# Altium integrated library Analog Devices Data Converters Analog-to-Digital Converters.IntLib: 2404 symbols (part 323 of 346)
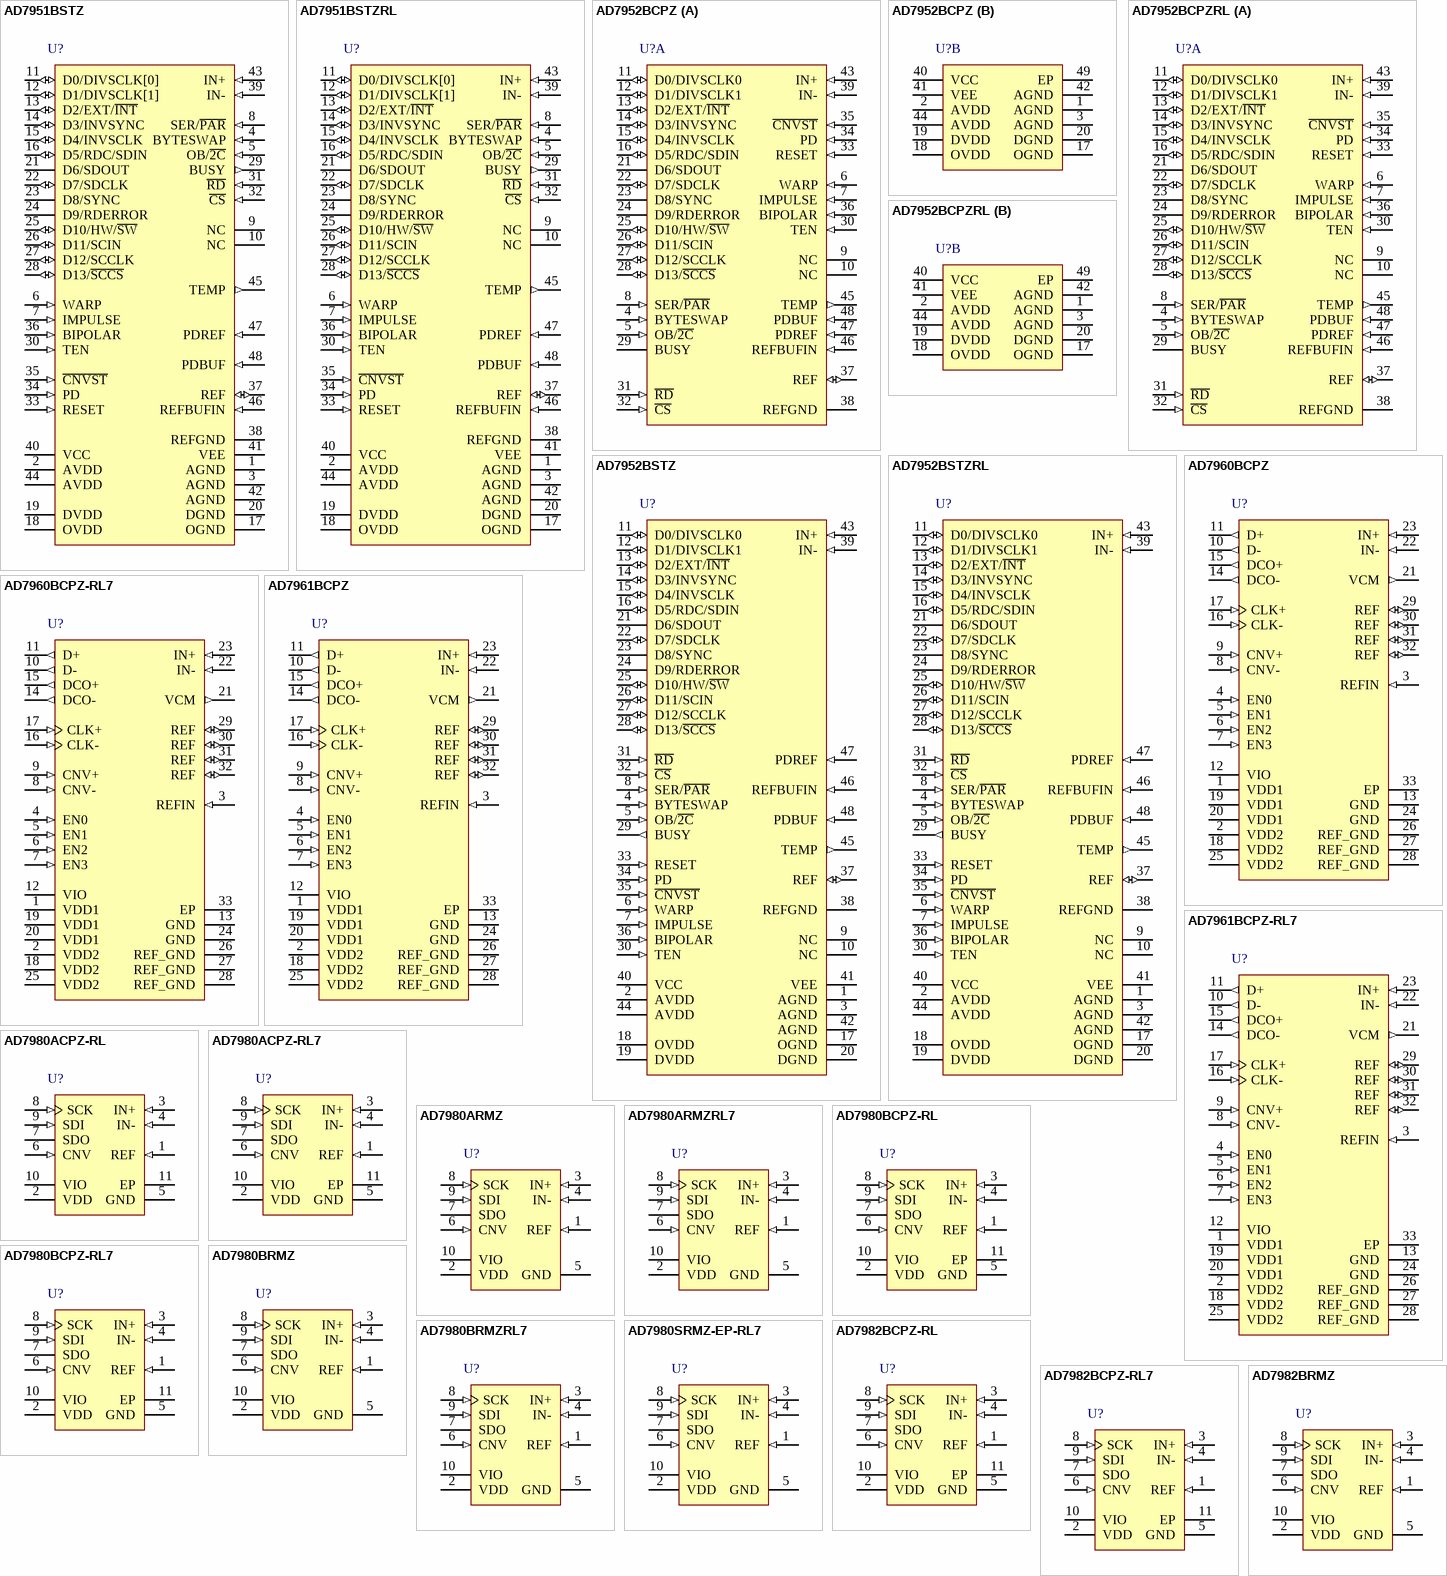
[diagram p328: symbols AD7951BSTZ to AD7982BRMZ]

## AD7980ARMZ
designator U?
Single 16-Bit PulSAR Analog-to-Digital Converter with Serial, SPI Interface, 1MSPS, -40 to +125 degC, RM-10, Pb-Free, Tube; Generic Part Number: AD7980; Manufacturer: Analog Devices; PartNumber: AD7980ARMZ; Resolution (Bits): 16; Channels: 1; Throughput Rate (SPS): 1M; Interface: Ser, SPI; DatasheetVersion: Rev.B; PackageVersion: May-2005; PackageReference: RM-10; PackageDescription: 10-Lead Mini Small Outline Package [MSOP]; Supplier 1: Digi-Key; Supplier Part Number 1: AD7980ARMZ-ND; Supplier 2: Farnell; Supplier Part Number 2: 1607233; Supplier 3: Newark; Supplier Part Number 3: 54M6760; Supplier 4: Mouser; Supplier Part Number 4: 584-AD7980ARMZ; RoHS: Y; Packing: Tube; Mounting Technology: Surface Mount; ComponentLink1Description: Manufacturer URL; ComponentLink1URL: http://www.analog.com/en/index.html; ComponentLink2Description: Datasheet; ComponentLink2URL: http://www.analog.com/static/imported-files/data_sheets/AD7980.pdf; ComponentLink3Description: Package Specification; ComponentLink3URL: http://www.analog.com/static/imported-files/packages/PKG_PDF/MSOP%28RM%29/RM_10.pdf; ComponentLink4Description: Product URL; ComponentLink4URL: http://www.analog.com/en/analog-to-digital-converters/ad-converters/ad7980/products/product.html
footprint RM-10_N (TSSOP, 10-Leads, Body 3x3mm, Pitch 0.5mm, IPC Medium Density)
footprint RM-10_L (TSSOP, 10-Leads, Body 3x3mm, Pitch 0.5mm, IPC High Density)
footprint RM-10_M (TSSOP, 10-Leads, Body 3x3mm, Pitch 0.5mm, IPC Low Density)
pins: 1 REF (in) "Reference Input Voltage. The REF range is from 2.4 V to 5.1 V. It is referred to the GND pin. This pin should be decoupled closely to the pin with a 10 uF capacitor.", 2 VDD (power) "Power Supply.", 3 IN+ (in) "Analog Input. It is referred to IN-. The voltage range, for example, the difference between IN+ and IN-, is 0 V to VREF.", 4 IN- (in) "Analog Input Ground Sense. To be connected to the analog ground plane or to a remote sense ground.", 5 GND (power) "Power Supply Ground.", 6 CNV (in) "Convert Input. This input has multiple functions. On its leading edge, it initiates the conversions and selects the interface mode of the part, chain, or C\S\ mode. In C\S\ mode, it enables the SDO pin when low.In chain (See Datasheet)", 7 SDO (hiz) "Serial Data Output. The conversion result is output on this pin. It is synchronized to SCK.", 8 SCK (in) "Serial Data Clock Input. When the part is selected, the conversion result is shifted out by this clock.", 9 SDI (in) "Serial Data Input. This input provides multiple features. It selects the interface mode of the ADC as follows. Chain mode is selected if SDI is low during the CNV rising edge. In this mode, SDI is used as a data input to (See Datasheet)", 10 VIO (power) "Input/Output Interface Digital Power. Nominally at the same supply as the host interface (1.8 V, 2.5 V,3 V, or 5 V)."

## AD7980ARMZRL7
designator U?
Single 16-Bit PulSAR Analog-to-Digital Converter with Serial, SPI Interface, 1MSPS, -40 to +125 degC, RM-10, Pb-Free, Reel; Generic Part Number: AD7980; Manufacturer: Analog Devices; PartNumber: AD7980ARMZRL7; Resolution (Bits): 16; Channels: 1; Throughput Rate (SPS): 1M; Interface: Ser, SPI; DatasheetVersion: Rev.B; PackageVersion: May-2005; PackageReference: RM-10; PackageDescription: 10-Lead Mini Small Outline Package [MSOP]; Supplier 1: Digi-Key; Supplier Part Number 1: AD7980ARMZRL7TR-ND; Supplier 2: Digi-Key; Supplier Part Number 2: AD7980ARMZRL7CT-ND; Supplier 3: Digi-Key; Supplier Part Number 3: AD7980ARMZRL7DKR-ND; Supplier 4: Newark; Supplier Part Number 4: 54M6761; Supplier 5: Mouser; Supplier Part Number 5: 584-AD7980ARMZR7; RoHS: Y; Packing: Reel; Mounting Technology: Surface Mount; ComponentLink1Description: Manufacturer URL; ComponentLink1URL: http://www.analog.com/en/index.html; ComponentLink2Description: Datasheet; ComponentLink2URL: http://www.analog.com/static/imported-files/data_sheets/AD7980.pdf; ComponentLink3Description: Package Specification; ComponentLink3URL: http://www.analog.com/static/imported-files/packages/PKG_PDF/MSOP%28RM%29/RM_10.pdf; ComponentLink4Description: Product URL; ComponentLink4URL: http://www.analog.com/en/analog-to-digital-converters/ad-converters/ad7980/products/product.html
footprint RM-10_N (TSSOP, 10-Leads, Body 3x3mm, Pitch 0.5mm, IPC Medium Density)
footprint RM-10_L (TSSOP, 10-Leads, Body 3x3mm, Pitch 0.5mm, IPC High Density)
footprint RM-10_M (TSSOP, 10-Leads, Body 3x3mm, Pitch 0.5mm, IPC Low Density)
pins: 1 REF (in) "Reference Input Voltage. The REF range is from 2.4 V to 5.1 V. It is referred to the GND pin. This pin should be decoupled closely to the pin with a 10 uF capacitor.", 2 VDD (power) "Power Supply.", 3 IN+ (in) "Analog Input. It is referred to IN-. The voltage range, for example, the difference between IN+ and IN-, is 0 V to VREF.", 4 IN- (in) "Analog Input Ground Sense. To be connected to the analog ground plane or to a remote sense ground.", 5 GND (power) "Power Supply Ground.", 6 CNV (in) "Convert Input. This input has multiple functions. On its leading edge, it initiates the conversions and selects the interface mode of the part, chain, or C\S\ mode. In C\S\ mode, it enables the SDO pin when low.In chain (See Datasheet)", 7 SDO (hiz) "Serial Data Output. The conversion result is output on this pin. It is synchronized to SCK.", 8 SCK (in) "Serial Data Clock Input. When the part is selected, the conversion result is shifted out by this clock.", 9 SDI (in) "Serial Data Input. This input provides multiple features. It selects the interface mode of the ADC as follows. Chain mode is selected if SDI is low during the CNV rising edge. In this mode, SDI is used as a data input to (See Datasheet)", 10 VIO (power) "Input/Output Interface Digital Power. Nominally at the same supply as the host interface (1.8 V, 2.5 V,3 V, or 5 V)."

## AD7980BCPZ-RL
designator U?
Single 16-Bit PulSAR Analog-to-Digital Converter with Serial, SPI Interface, 1MSPS, -40 to +125 degC, CP-10-9, Pb-Free, Reel; Generic Part Number: AD7980; Manufacturer: Analog Devices; PartNumber: AD7980BCPZ-RL; Resolution (Bits): 16; Channels: 1; Throughput Rate (SPS): 1M; Interface: Ser, SPI; DatasheetVersion: Rev.B; PackageVersion: 02-27-2012-B; PackageReference: CP-10-9; PackageDescription: 10-Lead Lead Frame Chip Scale Package [LFCSP_WD] 3 x 3 mm Body, Very Very Thin, Dual Lead; Supplier 1: Digi-Key; Supplier Part Number 1: AD7980BCPZ-RL-ND; Supplier 2: Newark; Supplier Part Number 2: 61M4039; Supplier 3: Mouser; Supplier Part Number 3: 584-AD7980BCPZ-R; RoHS: Y; Packing: Reel; Mounting Technology: Surface Mount; ComponentLink1Description: Manufacturer URL; ComponentLink1URL: http://www.analog.com/en/index.html; ComponentLink2Description: Datasheet; ComponentLink2URL: http://www.analog.com/static/imported-files/data_sheets/AD7980.pdf; ComponentLink3Description: Package Specification; ComponentLink3URL: http://www.analog.com/static/imported-files/packages/CP_10_9.pdf; ComponentLink4Description: Product URL; ComponentLink4URL: http://www.analog.com/en/analog-to-digital-converters/ad-converters/ad7980/products/product.html
footprint CP-10-9_N (SON, 10-Leads, Body 3x3mm, Pitch 0.5mm, Thermal Pad 2.35x1.6mm, IPC Medium Density)
footprint CP-10-9_L (SON, 10-Leads, Body 3x3mm, Pitch 0.5mm, Thermal Pad 2.35x1.6mm, IPC High Density)
footprint CP-10-9_M (SON, 10-Leads, Body 3x3mm, Pitch 0.5mm, Thermal Pad 2.35x1.6mm, IPC Low Density)
pins: 1 REF (in) "Reference Input Voltage. The REF range is from 2.4 V to 5.1 V. It is referred to the GND pin. This pin should be decoupled closely to the pin with a 10 uF capacitor.", 2 VDD (power) "Power Supply.", 3 IN+ (in) "Analog Input. It is referred to IN-. The voltage range, for example, the difference between IN+ and IN-, is  0 V to VREF.", 4 IN- (in) "Analog Input Ground Sense. To be connected to the analog ground plane or to a remote sense ground.", 5 GND (power) "Power Supply Ground.", 6 CNV (in) "Convert Input. This input has multiple functions. On its leading edge, it initiates the conversions and selects the interface mode of the part, chain, or C\S\ mode. In C\S\ mode, it enables the SDO pin when low. In chain (See Datasheet)", 7 SDO (hiz) "Serial Data Output. The conversion result is output on this pin. It is synchronized to SCK.", 8 SCK (in) "Serial Data Clock Input. When the part is selected, the conversion result is shifted out by this clock.", 9 SDI (in) "Serial Data Input. This input provides multiple features. It selects the interface mode of the ADC as follows. Chain mode is selected if SDI is low during the CNV rising edge. In this mode, SDI is used as a data  input to (See Datasheet)", 10 VIO (power) "Input/Output Interface Digital Power. Nominally at the same supply as the host interface (1.8 V, 2.5 V, 3 V, or 5 V).", 11 EP (power) "Exposed pad."

## AD7980BCPZ-RL7
designator U?
Single 16-Bit PulSAR Analog-to-Digital Converter with Serial, SPI Interface, 1MSPS, -40 to +125 degC, CP-10-9, Pb-Free, Reel; Generic Part Number: AD7980; Manufacturer: Analog Devices; PartNumber: AD7980BCPZ-RL7; Resolution (Bits): 16; Channels: 1; Throughput Rate (SPS): 1M; Interface: Ser, SPI; DatasheetVersion: Rev.B; PackageVersion: 02-27-2012-B; PackageReference: CP-10-9; PackageDescription: 10-Lead Lead Frame Chip Scale Package [LFCSP_WD] 3 x 3 mm Body, Very Very Thin, Dual Lead; Supplier 1: Digi-Key; Supplier Part Number 1: AD7980BCPZ-RL7TR-ND; Supplier 2: Digi-Key; Supplier Part Number 2: AD7980BCPZ-RL7CT-ND; Supplier 3: Digi-Key; Supplier Part Number 3: AD7980BCPZ-RL7DKR-ND; Supplier 4: Mouser; Supplier Part Number 4: 584-AD7980BCPZ-R7; RoHS: Y; Packing: Reel; Mounting Technology: Surface Mount; ComponentLink1Description: Manufacturer URL; ComponentLink1URL: http://www.analog.com/en/index.html; ComponentLink2Description: Datasheet; ComponentLink2URL: http://www.analog.com/static/imported-files/data_sheets/AD7980.pdf; ComponentLink3Description: Package Specification; ComponentLink3URL: http://www.analog.com/static/imported-files/packages/CP_10_9.pdf; ComponentLink4Description: Product URL; ComponentLink4URL: http://www.analog.com/en/analog-to-digital-converters/ad-converters/ad7980/products/product.html
footprint CP-10-9_N (SON, 10-Leads, Body 3x3mm, Pitch 0.5mm, Thermal Pad 2.35x1.6mm, IPC Medium Density)
footprint CP-10-9_L (SON, 10-Leads, Body 3x3mm, Pitch 0.5mm, Thermal Pad 2.35x1.6mm, IPC High Density)
footprint CP-10-9_M (SON, 10-Leads, Body 3x3mm, Pitch 0.5mm, Thermal Pad 2.35x1.6mm, IPC Low Density)
pins: 1 REF (in) "Reference Input Voltage. The REF range is from 2.4 V to 5.1 V. It is referred to the GND pin. This pin should be decoupled closely to the pin with a 10 uF capacitor.", 2 VDD (power) "Power Supply.", 3 IN+ (in) "Analog Input. It is referred to IN-. The voltage range, for example, the difference between IN+ and IN-, is  0 V to VREF.", 4 IN- (in) "Analog Input Ground Sense. To be connected to the analog ground plane or to a remote sense ground.", 5 GND (power) "Power Supply Ground.", 6 CNV (in) "Convert Input. This input has multiple functions. On its leading edge, it initiates the conversions and selects the interface mode of the part, chain, or C\S\ mode. In C\S\ mode, it enables the SDO pin when low. In chain (See Datasheet)", 7 SDO (hiz) "Serial Data Output. The conversion result is output on this pin. It is synchronized to SCK.", 8 SCK (in) "Serial Data Clock Input. When the part is selected, the conversion result is shifted out by this clock.", 9 SDI (in) "Serial Data Input. This input provides multiple features. It selects the interface mode of the ADC as follows. Chain mode is selected if SDI is low during the CNV rising edge. In this mode, SDI is used as a data  input to (See Datasheet)", 10 VIO (power) "Input/Output Interface Digital Power. Nominally at the same supply as the host interface (1.8 V, 2.5 V, 3 V, or 5 V).", 11 EP (power) "Exposed pad."

## AD7980BRMZ
designator U?
Single 16-Bit PulSAR Analog-to-Digital Converter with Serial, SPI Interface, 1MSPS, -40 to +125 degC, RM-10, Pb-Free, Tube; Generic Part Number: AD7980; Manufacturer: Analog Devices; PartNumber: AD7980BRMZ; Resolution (Bits): 16; Channels: 1; Throughput Rate (SPS): 1M; Interface: Ser, SPI; DatasheetVersion: Rev.B; PackageVersion: May-2005; PackageReference: RM-10; PackageDescription: 10-Lead Mini Small Outline Package [MSOP]; Supplier 1: Digi-Key; Supplier Part Number 1: AD7980BRMZ-ND; Supplier 2: Newark; Supplier Part Number 2: 54M6762; Supplier 3: Mouser; Supplier Part Number 3: 584-AD7980BRMZ; RoHS: Y; Packing: Tube; Mounting Technology: Surface Mount; ComponentLink1Description: Manufacturer URL; ComponentLink1URL: http://www.analog.com/en/index.html; ComponentLink2Description: Datasheet; ComponentLink2URL: http://www.analog.com/static/imported-files/data_sheets/AD7980.pdf; ComponentLink3Description: Package Specification; ComponentLink3URL: http://www.analog.com/static/imported-files/packages/PKG_PDF/MSOP%28RM%29/RM_10.pdf; ComponentLink4Description: Product URL; ComponentLink4URL: http://www.analog.com/en/analog-to-digital-converters/ad-converters/ad7980/products/product.html
footprint RM-10_N (TSSOP, 10-Leads, Body 3x3mm, Pitch 0.5mm, IPC Medium Density)
footprint RM-10_L (TSSOP, 10-Leads, Body 3x3mm, Pitch 0.5mm, IPC High Density)
footprint RM-10_M (TSSOP, 10-Leads, Body 3x3mm, Pitch 0.5mm, IPC Low Density)
pins: 1 REF (in) "Reference Input Voltage. The REF range is from 2.4 V to 5.1 V. It is referred to the GND pin. This pin should be decoupled closely to the pin with a 10 uF capacitor.", 2 VDD (power) "Power Supply.", 3 IN+ (in) "Analog Input. It is referred to IN-. The voltage range, for example, the difference between IN+ and IN-, is 0 V to VREF.", 4 IN- (in) "Analog Input Ground Sense. To be connected to the analog ground plane or to a remote sense ground.", 5 GND (power) "Power Supply Ground.", 6 CNV (in) "Convert Input. This input has multiple functions. On its leading edge, it initiates the conversions and selects the interface mode of the part, chain, or C\S\ mode. In C\S\ mode, it enables the SDO pin when low.In chain (See Datasheet)", 7 SDO (hiz) "Serial Data Output. The conversion result is output on this pin. It is synchronized to SCK.", 8 SCK (in) "Serial Data Clock Input. When the part is selected, the conversion result is shifted out by this clock.", 9 SDI (in) "Serial Data Input. This input provides multiple features. It selects the interface mode of the ADC as follows. Chain mode is selected if SDI is low during the CNV rising edge. In this mode, SDI is used as a data input to (See Datasheet)", 10 VIO (power) "Input/Output Interface Digital Power. Nominally at the same supply as the host interface (1.8 V, 2.5 V,3 V, or 5 V)."

## AD7980BRMZRL7
designator U?
Single 16-Bit PulSAR Analog-to-Digital Converter with Serial, SPI Interface, 1MSPS, -40 to +125 degC, RM-10, Pb-Free, Reel; Generic Part Number: AD7980; Manufacturer: Analog Devices; PartNumber: AD7980BRMZRL7; Resolution (Bits): 16; Channels: 1; Throughput Rate (SPS): 1M; Interface: Ser, SPI; DatasheetVersion: Rev.B; PackageVersion: May-2005; PackageReference: RM-10; PackageDescription: 10-Lead Mini Small Outline Package [MSOP]; Supplier 1: Digi-Key; Supplier Part Number 1: AD7980BRMZRL7TR-ND; Supplier 2: Digi-Key; Supplier Part Number 2: AD7980BRMZRL7CT-ND; Supplier 3: Digi-Key; Supplier Part Number 3: AD7980BRMZRL7DKR-ND; Supplier 4: Newark; Supplier Part Number 4: 54M6763; Supplier 5: Mouser; Supplier Part Number 5: 584-AD7980BRMZR7; RoHS: Y; Packing: Reel; Mounting Technology: Surface Mount; ComponentLink1Description: Manufacturer URL; ComponentLink1URL: http://www.analog.com/en/index.html; ComponentLink2Description: Datasheet; ComponentLink2URL: http://www.analog.com/static/imported-files/data_sheets/AD7980.pdf; ComponentLink3Description: Package Specification; ComponentLink3URL: http://www.analog.com/static/imported-files/packages/PKG_PDF/MSOP%28RM%29/RM_10.pdf; ComponentLink4Description: Product URL; ComponentLink4URL: http://www.analog.com/en/analog-to-digital-converters/ad-converters/ad7980/products/product.html
footprint RM-10_N (TSSOP, 10-Leads, Body 3x3mm, Pitch 0.5mm, IPC Medium Density)
footprint RM-10_L (TSSOP, 10-Leads, Body 3x3mm, Pitch 0.5mm, IPC High Density)
footprint RM-10_M (TSSOP, 10-Leads, Body 3x3mm, Pitch 0.5mm, IPC Low Density)
pins: 1 REF (in) "Reference Input Voltage. The REF range is from 2.4 V to 5.1 V. It is referred to the GND pin. This pin should be decoupled closely to the pin with a 10 uF capacitor.", 2 VDD (power) "Power Supply.", 3 IN+ (in) "Analog Input. It is referred to IN-. The voltage range, for example, the difference between IN+ and IN-, is 0 V to VREF.", 4 IN- (in) "Analog Input Ground Sense. To be connected to the analog ground plane or to a remote sense ground.", 5 GND (power) "Power Supply Ground.", 6 CNV (in) "Convert Input. This input has multiple functions. On its leading edge, it initiates the conversions and selects the interface mode of the part, chain, or C\S\ mode. In C\S\ mode, it enables the SDO pin when low.In chain (See Datasheet)", 7 SDO (hiz) "Serial Data Output. The conversion result is output on this pin. It is synchronized to SCK.", 8 SCK (in) "Serial Data Clock Input. When the part is selected, the conversion result is shifted out by this clock.", 9 SDI (in) "Serial Data Input. This input provides multiple features. It selects the interface mode of the ADC as follows. Chain mode is selected if SDI is low during the CNV rising edge. In this mode, SDI is used as a data input to (See Datasheet)", 10 VIO (power) "Input/Output Interface Digital Power. Nominally at the same supply as the host interface (1.8 V, 2.5 V,3 V, or 5 V)."

## AD7980SRMZ-EP-RL7
designator U?
Single 16-Bit PulSAR Analog-to-Digital Converter with Serial, SPI Interface, 1MSPS, -55 to +125 degC, RM-10, Pb-Free, Reel; Generic Part Number: AD7980; Manufacturer: Analog Devices; PartNumber: AD7980SRMZ-EP-RL7; Resolution (Bits): 16; Channels: 1; Throughput Rate (SPS): 1M; Interface: Ser, SPI; DatasheetVersion: Rev.0; PackageVersion: May-2005; PackageReference: RM-10; PackageDescription: 10-Lead Mini Small Outline Package [MSOP]; Supplier 1: Digi-Key; Supplier Part Number 1: AD7980SRMZ-EP-RL7TR-ND; Supplier 2: Digi-Key; Supplier Part Number 2: AD7980SRMZ-EP-RL7CT-ND; Supplier 3: Digi-Key; Supplier Part Number 3: AD7980SRMZ-EP-RL7DKR-ND; Supplier 4: Newark; Supplier Part Number 4: 18T2150; Supplier 5: Mouser; Supplier Part Number 5: 584-AD7980SRMZ-EP-R7; RoHS: Y; Packing: Reel; Mounting Technology: Surface Mount; ComponentLink1Description: Manufacturer URL; ComponentLink1URL: http://www.analog.com/en/index.html; ComponentLink2Description: Datasheet; ComponentLink2URL: http://www.analog.com/static/imported-files/data_sheets/AD7980-EP.pdf; ComponentLink3Description: Package Specification; ComponentLink3URL: http://www.analog.com/static/imported-files/packages/PKG_PDF/MSOP%28RM%29/RM_10.pdf; ComponentLink4Description: Product URL; ComponentLink4URL: http://www.analog.com/en/analog-to-digital-converters/ad-converters/ad7980/products/product.html
footprint RM-10_N (TSSOP, 10-Leads, Body 3x3mm, Pitch 0.5mm, IPC Medium Density)
footprint RM-10_L (TSSOP, 10-Leads, Body 3x3mm, Pitch 0.5mm, IPC High Density)
footprint RM-10_M (TSSOP, 10-Leads, Body 3x3mm, Pitch 0.5mm, IPC Low Density)
pins: 1 REF (in) "Reference Input Voltage. The REF range is from 2.4 V to 5.1 V. It is referred to the GND pin. This pin should be decoupled closely to the pin with a 10 uF capacitor.", 2 VDD (power) "Power Supply.", 3 IN+ (in) "Analog Input. It is referred to IN-. The voltage range, for example, the difference between IN+ and IN-, is 0 V to VREF.", 4 IN- (in) "Analog Input Ground Sense. To be connected to the analog ground plane or to a remote sense ground.", 5 GND (power) "Power Supply Ground.", 6 CNV (in) "Convert Input. This input has multiple functions. On its leading edge, it initiates the conversions and selects the interface mode of the part, chain, or C\S\ mode. In C\S\ mode, it enables the SDO pin when low.In chain (See Datasheet)", 7 SDO (hiz) "Serial Data Output. The conversion result is output on this pin. It is synchronized to SCK.", 8 SCK (in) "Serial Data Clock Input. When the part is selected, the conversion result is shifted out by this clock.", 9 SDI (in) "Serial Data Input. This input provides multiple features. It selects the interface mode of the ADC as follows. Chain mode is selected if SDI is low during the CNV rising edge. In this mode, SDI is used as a data input to (See Datasheet)", 10 VIO (power) "Input/Output Interface Digital Power. Nominally at the same supply as the host interface (1.8 V, 2.5 V,3 V, or 5 V)."

## AD7982BCPZ-RL
designator U?
Single 18-Bit PulSAR Analog-to-Digital Converter with Serial, SPI Interface, 1MSPS, -40 to +85 degC, CP-10-9, Pb-Free, Reel; Generic Part Number: AD7982; Manufacturer: Analog Devices; PartNumber: AD7982BCPZ-RL; Resolution (Bits): 18; Channels: 1; Throughput Rate (SPS): 1M; Interface: Ser, SPI; DatasheetVersion: Rev.A; PackageVersion: 02-27-2012-B; PackageReference: CP-10-9; PackageDescription: 10-Lead Lead Frame Chip Scale Package [LFCSP_WD] 3 x 3 mm Body, Very Very Thin, Dual Lead; Supplier 1: Digi-Key; Supplier Part Number 1: AD7982BCPZ-RL-ND; Supplier 2: Newark; Supplier Part Number 2: 61M4041; Supplier 3: Mouser; Supplier Part Number 3: 584-AD7982BCPZ-R; RoHS: Y; Packing: Reel; Mounting Technology: Surface Mount; ComponentLink1Description: Manufacturer URL; ComponentLink1URL: http://www.analog.com/en/index.html; ComponentLink2Description: Datasheet; ComponentLink2URL: http://www.analog.com/static/imported-files/data_sheets/AD7982.pdf; ComponentLink3Description: Package Specification; ComponentLink3URL: http://www.analog.com/static/imported-files/packages/CP_10_9.pdf; ComponentLink4Description: Product URL; ComponentLink4URL: http://www.analog.com/en/analog-to-digital-converters/ad-converters/ad7982/products/product.html
footprint CP-10-9_N (SON, 10-Leads, Body 3x3mm, Pitch 0.5mm, Thermal Pad 2.35x1.6mm, IPC Medium Density)
footprint CP-10-9_L (SON, 10-Leads, Body 3x3mm, Pitch 0.5mm, Thermal Pad 2.35x1.6mm, IPC High Density)
footprint CP-10-9_M (SON, 10-Leads, Body 3x3mm, Pitch 0.5mm, Thermal Pad 2.35x1.6mm, IPC Low Density)
pins: 1 REF (in) "Reference Input Voltage. The REF range is 2.4 V to 5.1 V. This pin is referred to the GND pin and should be decoupled closely to the GND pin with a 10 uF capacitor.", 2 VDD (power) "Power Supply.", 3 IN+ (in) "Differential Positive Analog Input.", 4 IN- (in) "Differential Negative Analog Input.", 5 GND (power) "Power Supply Ground.", 6 CNV (in) "Convert Input. This input has multiple functions. On its leading edge, it initiates the conversions and selects the interface mode of the part: chain mode or C\S\ mode. In C\S\ mode, the SDO pin is enabled when CNV is low. (See Datasheet)", 7 SDO (hiz) "Serial Data Output. The conversion result is output on this pin. It is synchronized to SCK.", 8 SCK (in) "Serial Data Clock Input. When the part is selected, the conversion result is shifted out by this clock.", 9 SDI (in) "Serial Data Input. This input provides multiple features. It selects the interface mode of the ADC as follows: Chain mode is selected if SDI is low during the CNV rising edge. In this mode, SDI is used as a data input to (See Datasheet)", 10 VIO (power) "Input/Output Interface Digital Power. Nominally at the same supply as the host interface (1.8 V, 2.5 V, 3 V, or 5 V).", 11 EP "Exposed Pad"

## AD7982BCPZ-RL7
designator U?
Single 18-Bit PulSAR Analog-to-Digital Converter with Serial, SPI Interface, 1MSPS, -40 to +85 degC, CP-10-9, Pb-Free, Reel; Generic Part Number: AD7982; Manufacturer: Analog Devices; PartNumber: AD7982BCPZ-RL7; Resolution (Bits): 18; Channels: 1; Throughput Rate (SPS): 1M; Interface: Ser, SPI; DatasheetVersion: Rev.A; PackageVersion: 02-27-2012-B; PackageReference: CP-10-9; PackageDescription: 10-Lead Lead Frame Chip Scale Package [LFCSP_WD] 3 x 3 mm Body, Very Very Thin, Dual Lead; Supplier 1: Digi-Key; Supplier Part Number 1: AD7982BCPZ-RL7TR-ND; Supplier 2: Digi-Key; Supplier Part Number 2: AD7982BCPZ-RL7CT-ND; Supplier 3: Digi-Key; Supplier Part Number 3: AD7982BCPZ-RL7DKR-ND; Supplier 4: Newark; Supplier Part Number 4: 61M4042; Supplier 5: Mouser; Supplier Part Number 5: 584-AD7982BCPZ-R7; RoHS: Y; Packing: Reel; Mounting Technology: Surface Mount; ComponentLink1Description: Manufacturer URL; ComponentLink1URL: http://www.analog.com/en/index.html; ComponentLink2Description: Datasheet; ComponentLink2URL: http://www.analog.com/static/imported-files/data_sheets/AD7982.pdf; ComponentLink3Description: Package Specification; ComponentLink3URL: http://www.analog.com/static/imported-files/packages/CP_10_9.pdf; ComponentLink4Description: Product URL; ComponentLink4URL: http://www.analog.com/en/analog-to-digital-converters/ad-converters/ad7982/products/product.html
footprint CP-10-9_N (SON, 10-Leads, Body 3x3mm, Pitch 0.5mm, Thermal Pad 2.35x1.6mm, IPC Medium Density)
footprint CP-10-9_L (SON, 10-Leads, Body 3x3mm, Pitch 0.5mm, Thermal Pad 2.35x1.6mm, IPC High Density)
footprint CP-10-9_M (SON, 10-Leads, Body 3x3mm, Pitch 0.5mm, Thermal Pad 2.35x1.6mm, IPC Low Density)
pins: 1 REF (in) "Reference Input Voltage. The REF range is 2.4 V to 5.1 V. This pin is referred to the GND pin and should be decoupled closely to the GND pin with a 10 uF capacitor.", 2 VDD (power) "Power Supply.", 3 IN+ (in) "Differential Positive Analog Input.", 4 IN- (in) "Differential Negative Analog Input.", 5 GND (power) "Power Supply Ground.", 6 CNV (in) "Convert Input. This input has multiple functions. On its leading edge, it initiates the conversions and selects the interface mode of the part: chain mode or C\S\ mode. In C\S\ mode, the SDO pin is enabled when CNV is low. (See Datasheet)", 7 SDO (hiz) "Serial Data Output. The conversion result is output on this pin. It is synchronized to SCK.", 8 SCK (in) "Serial Data Clock Input. When the part is selected, the conversion result is shifted out by this clock.", 9 SDI (in) "Serial Data Input. This input provides multiple features. It selects the interface mode of the ADC as follows: Chain mode is selected if SDI is low during the CNV rising edge. In this mode, SDI is used as a data input to (See Datasheet)", 10 VIO (power) "Input/Output Interface Digital Power. Nominally at the same supply as the host interface (1.8 V, 2.5 V, 3 V, or 5 V).", 11 EP "Exposed Pad"

## AD7982BRMZ
designator U?
Single 18-Bit PulSAR Analog-to-Digital Converter with Serial, SPI Interface, 1MSPS, -40 to +85 degC, RM-10, Pb-Free, Tube; Generic Part Number: AD7982; Manufacturer: Analog Devices; PartNumber: AD7982BRMZ; Resolution (Bits): 18; Channels: 1; Throughput Rate (SPS): 1M; Interface: Ser, SPI; DatasheetVersion: Rev.A; PackageVersion: May-2005; PackageReference: RM-10; PackageDescription: 10-Lead Mini Small Outline Package [MSOP]; Supplier 1: Digi-Key; Supplier Part Number 1: AD7982BRMZ-ND; Supplier 2: Farnell; Supplier Part Number 2: 1498675; Supplier 3: Newark; Supplier Part Number 3: 34M5046; Supplier 4: Mouser; Supplier Part Number 4: 584-AD7982BRMZ; RoHS: Y; Packing: Tube; Mounting Technology: Surface Mount; ComponentLink1Description: Manufacturer URL; ComponentLink1URL: http://www.analog.com/en/index.html; ComponentLink2Description: Datasheet; ComponentLink2URL: http://www.analog.com/static/imported-files/data_sheets/AD7982.pdf; ComponentLink3Description: Package Specification; ComponentLink3URL: http://www.analog.com/static/imported-files/packages/PKG_PDF/MSOP%28RM%29/RM_10.pdf; ComponentLink4Description: Product URL; ComponentLink4URL: http://www.analog.com/en/analog-to-digital-converters/ad-converters/ad7982/products/product.html
footprint RM-10_N (TSSOP, 10-Leads, Body 3x3mm, Pitch 0.5mm, IPC Medium Density)
footprint RM-10_L (TSSOP, 10-Leads, Body 3x3mm, Pitch 0.5mm, IPC High Density)
footprint RM-10_M (TSSOP, 10-Leads, Body 3x3mm, Pitch 0.5mm, IPC Low Density)
pins: 1 REF (in) "Reference Input Voltage. The REF range is 2.4 V to 5.1 V. This pin is referred to the GND pin and should be decoupled closely to the GND pin with a 10 uF capacitor.", 2 VDD (power) "Power Supply.", 3 IN+ (in) "Differential Positive Analog Input.", 4 IN- (in) "Differential Negative Analog Input.", 5 GND (power) "Power Supply Ground.", 6 CNV (in) "Convert Input. This input has multiple functions. On its leading edge, it initiates the conversions and selects the interface mode of the part: chain mode or C\S\ mode. In C\S\ mode, the SDO pin is enabled when CNV is low. (See Datasheet)", 7 SDO (hiz) "Serial Data Output. The conversion result is output on this pin. It is synchronized to SCK.", 8 SCK (in) "Serial Data Clock Input. When the part is selected, the conversion result is shifted out by this clock.", 9 SDI (in) "Serial Data Input. This input provides multiple features. It selects the interface mode of the ADC as follows: Chain mode is selected if SDI is low during the CNV rising edge. In this mode, SDI is used as a data input to (See Datasheet)", 10 VIO (power) "Input/Output Interface Digital Power. Nominally at the same supply as the host interface (1.8 V, 2.5 V, 3 V, or 5 V)."

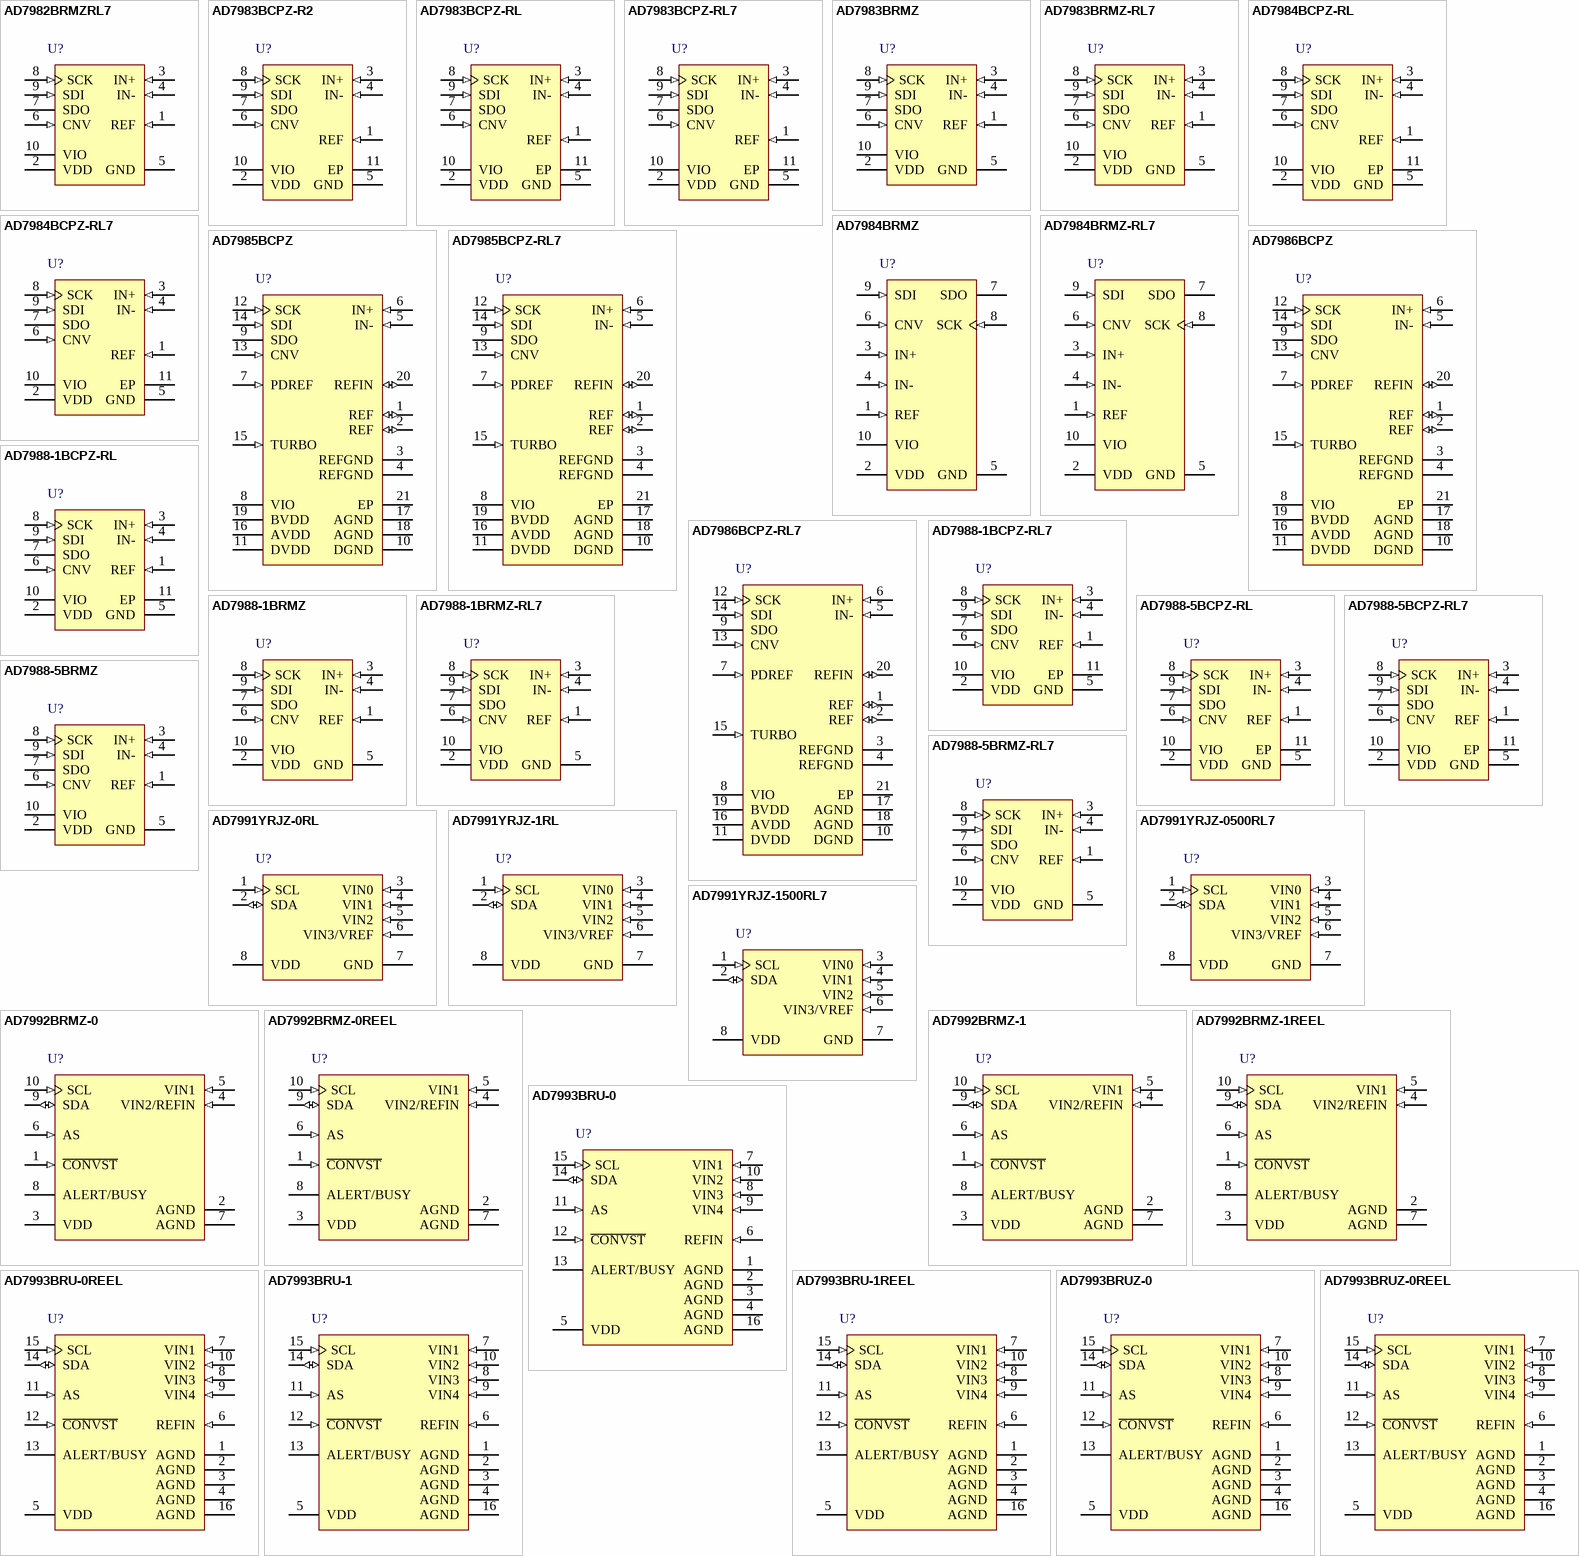
[diagram p94: symbols AD7982BRMZRL7 to AD7993BRUZ-0REEL]

## AD7982BRMZRL7
designator U?
Single 18-Bit PulSAR Analog-to-Digital Converter with Serial, SPI Interface, 1MSPS, -40 to +85 degC, RM-10, Pb-Free, Reel; Generic Part Number: AD7982; Manufacturer: Analog Devices; PartNumber: AD7982BRMZRL7; Resolution (Bits): 18; Channels: 1; Throughput Rate (SPS): 1M; Interface: Ser, SPI; DatasheetVersion: Rev.A; PackageVersion: May-2005; PackageReference: RM-10; PackageDescription: 10-Lead Mini Small Outline Package [MSOP]; Supplier 1: Digi-Key; Supplier Part Number 1: AD7982BRMZRL7-ND; Supplier 2: Mouser; Supplier Part Number 2: 584-AD7982BRMZR7; RoHS: Y; Packing: Reel; Mounting Technology: Surface Mount; ComponentLink1Description: Manufacturer URL; ComponentLink1URL: http://www.analog.com/en/index.html; ComponentLink2Description: Datasheet; ComponentLink2URL: http://www.analog.com/static/imported-files/data_sheets/AD7982.pdf; ComponentLink3Description: Package Specification; ComponentLink3URL: http://www.analog.com/static/imported-files/packages/PKG_PDF/MSOP%28RM%29/RM_10.pdf; ComponentLink4Description: Product URL; ComponentLink4URL: http://www.analog.com/en/analog-to-digital-converters/ad-converters/ad7982/products/product.html
footprint RM-10_N (TSSOP, 10-Leads, Body 3x3mm, Pitch 0.5mm, IPC Medium Density)
footprint RM-10_L (TSSOP, 10-Leads, Body 3x3mm, Pitch 0.5mm, IPC High Density)
footprint RM-10_M (TSSOP, 10-Leads, Body 3x3mm, Pitch 0.5mm, IPC Low Density)
pins: 1 REF (in) "Reference Input Voltage. The REF range is 2.4 V to 5.1 V. This pin is referred to the GND pin and should be decoupled closely to the GND pin with a 10 uF capacitor.", 2 VDD (power) "Power Supply.", 3 IN+ (in) "Differential Positive Analog Input.", 4 IN- (in) "Differential Negative Analog Input.", 5 GND (power) "Power Supply Ground.", 6 CNV (in) "Convert Input. This input has multiple functions. On its leading edge, it initiates the conversions and selects the interface mode of the part: chain mode or C\S\ mode. In C\S\ mode, the SDO pin is enabled when CNV is low. (See Datasheet)", 7 SDO (hiz) "Serial Data Output. The conversion result is output on this pin. It is synchronized to SCK.", 8 SCK (in) "Serial Data Clock Input. When the part is selected, the conversion result is shifted out by this clock.", 9 SDI (in) "Serial Data Input. This input provides multiple features. It selects the interface mode of the ADC as follows: Chain mode is selected if SDI is low during the CNV rising edge. In this mode, SDI is used as a data input to (See Datasheet)", 10 VIO (power) "Input/Output Interface Digital Power. Nominally at the same supply as the host interface (1.8 V, 2.5 V, 3 V, or 5 V)."

## AD7983BCPZ-R2
designator U?
Single 16-Bit PulSAR Analog-to-Digital Converter with Serial, SPI Interface, 1.33MSPS, -40 to +85 degC, CP-10-9, Pb-Free, Reel; Generic Part Number: AD7983; Manufacturer: Analog Devices; PartNumber: AD7983BCPZ-R2; Resolution (Bits): 16; Channels: 1; Throughput Rate (SPS): 1.33M; Interface: Ser, SPI; DatasheetVersion: Rev.A; PackageVersion: 2005; PackageReference: CP-10-3; PackageDescription: 10-Lead Lead Frame Chip Scale Package [LFCSP_WD] 3 x 3 mm Body, Very Very Thin, Dual Lead; Supplier 1: Mouser; Supplier Part Number 1: N/A; RoHS: Y; Packing: Reel; Mounting Technology: Surface Mount; ComponentLink1Description: Manufacturer URL; ComponentLink1URL: http://www.analog.com/en/index.html; ComponentLink2Description: Datasheet; ComponentLink2URL: http://www.analog.com/static/imported-files/data_sheets/AD7983.pdf; ComponentLink3Description: Package Specification; ComponentLink3URL: http://www.analog.com/static/imported-files/packages/PKG_PDF/LFCSP(CP)/CP_10_3.pdf; ComponentLink4Description: Product URL; ComponentLink4URL: http://www.analog.com/en/analog-to-digital-converters/ad-converters/ad7983/products/product.html
footprint CP-10-3_N (SON, 10-Leads, Body 3x3mm, Pitch 0.5mm, Thermal Pad 2.3x1.5mm, IPC Medium Density)
footprint CP-10-3_L (SON, 10-Leads, Body 3x3mm, Pitch 0.5mm, Thermal Pad 2.3x1.5mm, IPC High Density)
footprint CP-10-3_M (SON, 10-Leads, Body 3x3mm, Pitch 0.5mm, Thermal Pad 2.3x1.5mm, IPC Low Density)
pins: 1 REF (in) "Reference Input Voltage. The REF range is from 2.9 V to 5.1 V. It is referred to the GND pin. This pin should be decoupled closely to the pin with a 10 uF capacitor.", 2 VDD (power) "Power Supply.", 3 IN+ (in) "Analog Input. It is referred to IN-. The voltage range, for example, the difference between IN+ and IN-, is 0 V to VREF.", 4 IN- (in) "Analog Input Ground Sense. To be connected to the analog ground plane or to a remote sense ground.", 5 GND (power) "Power Supply Ground.", 6 CNV (in) "Convert Input. This input has multiple functions. On its risng edge, it initiates the conversions and selects the interface mode of the part: chain or C\S\ mode. In C\S\ mode, it enables the SDO pin when low. In chain mode, (See Datasheet)", 7 SDO (hiz) "Serial Data Output. The conversion result is output on this pin. It is synchronized to SCK.", 8 SCK (in) "Serial Data Clock Input. When the part is selected, the conversion result is shifted out by this clock.", 9 SDI (in) "Serial Data Input. This input provides multiple features. It selects the interface mode of the ADC as follows:Chain mode is selected if SDI is low during the CNV rising edge. In this mode, SDI is used as a data input to (See Datasheet)", 10 VIO (power) "Input/Output Interface Digital Power. Nominally at the same supply as the host interface (1.8 V, 2.5 V, 3 V, or 5 V).", 11 EP "Exposed Paddle."

## AD7983BCPZ-RL
designator U?
Single 16-Bit PulSAR Analog-to-Digital Converter with Serial, SPI Interface, 1.33MSPS, -40 to +85 degC, CP-10-9, Pb-Free, Reel; Generic Part Number: AD7983; Manufacturer: Analog Devices; PartNumber: AD7983BCPZ-RL; Resolution (Bits): 16; Channels: 1; Throughput Rate (SPS): 1.33M; Interface: Ser, SPI; DatasheetVersion: Rev.A; PackageVersion: 2005; PackageReference: CP-10-3; PackageDescription: 10-Lead Lead Frame Chip Scale Package [LFCSP_WD] 3 x 3 mm Body, Very Very Thin, Dual Lead; Supplier 1: Digi-Key; Supplier Part Number 1: AD7983BCPZ-RL-ND; Supplier 2: Mouser; Supplier Part Number 2: 584-AD7983BCPZ-R; RoHS: Y; Packing: Reel; Mounting Technology: Surface Mount; ComponentLink1Description: Manufacturer URL; ComponentLink1URL: http://www.analog.com/en/index.html; ComponentLink2Description: Datasheet; ComponentLink2URL: http://www.analog.com/static/imported-files/data_sheets/AD7983.pdf; ComponentLink3Description: Package Specification; ComponentLink3URL: http://www.analog.com/static/imported-files/packages/PKG_PDF/LFCSP(CP)/CP_10_3.pdf; ComponentLink4Description: Product URL; ComponentLink4URL: http://www.analog.com/en/analog-to-digital-converters/ad-converters/ad7983/products/product.html
footprint CP-10-3_N (SON, 10-Leads, Body 3x3mm, Pitch 0.5mm, Thermal Pad 2.3x1.5mm, IPC Medium Density)
footprint CP-10-3_L (SON, 10-Leads, Body 3x3mm, Pitch 0.5mm, Thermal Pad 2.3x1.5mm, IPC High Density)
footprint CP-10-3_M (SON, 10-Leads, Body 3x3mm, Pitch 0.5mm, Thermal Pad 2.3x1.5mm, IPC Low Density)
pins: 1 REF (in) "Reference Input Voltage. The REF range is from 2.9 V to 5.1 V. It is referred to the GND pin. This pin should be decoupled closely to the pin with a 10 uF capacitor.", 2 VDD (power) "Power Supply.", 3 IN+ (in) "Analog Input. It is referred to IN-. The voltage range, for example, the difference between IN+ and IN-, is 0 V to VREF.", 4 IN- (in) "Analog Input Ground Sense. To be connected to the analog ground plane or to a remote sense ground.", 5 GND (power) "Power Supply Ground.", 6 CNV (in) "Convert Input. This input has multiple functions. On its risng edge, it initiates the conversions and selects the interface mode of the part: chain or C\S\ mode. In C\S\ mode, it enables the SDO pin when low. In chain mode, (See Datasheet)", 7 SDO (hiz) "Serial Data Output. The conversion result is output on this pin. It is synchronized to SCK.", 8 SCK (in) "Serial Data Clock Input. When the part is selected, the conversion result is shifted out by this clock.", 9 SDI (in) "Serial Data Input. This input provides multiple features. It selects the interface mode of the ADC as follows:Chain mode is selected if SDI is low during the CNV rising edge. In this mode, SDI is used as a data input to (See Datasheet)", 10 VIO (power) "Input/Output Interface Digital Power. Nominally at the same supply as the host interface (1.8 V, 2.5 V, 3 V, or 5 V).", 11 EP "Exposed Paddle."

## AD7983BCPZ-RL7
designator U?
Single 16-Bit PulSAR Analog-to-Digital Converter with Serial, SPI Interface, 1.33MSPS, -40 to +85 degC, CP-10-9, Pb-Free, Reel; Generic Part Number: AD7983; Manufacturer: Analog Devices; PartNumber: AD7983BCPZ-RL7; Resolution (Bits): 16; Channels: 1; Throughput Rate (SPS): 1.33M; Interface: Ser, SPI; DatasheetVersion: Rev.A; PackageVersion: 02-27-2012-B; PackageReference: CP-10-9; PackageDescription: 10-Lead Lead Frame Chip Scale Package [LFCSP_WD] 3 x 3 mm Body, Very Very Thin, Dual Lead; Supplier 1: Digi-Key; Supplier Part Number 1: AD7983BCPZ-RL7TR-ND; Supplier 2: Digi-Key; Supplier Part Number 2: AD7983BCPZ-RL7CT-ND; Supplier 3: Digi-Key; Supplier Part Number 3: AD7983BCPZ-RL7DKR-ND; Supplier 4: Newark; Supplier Part Number 4: 64M7560; Supplier 5: Mouser; Supplier Part Number 5: 584-AD7983BCPZ-R7; RoHS: Y; Packing: Reel; Mounting Technology: Surface Mount; ComponentLink1Description: Manufacturer URL; ComponentLink1URL: http://www.analog.com/en/index.html; ComponentLink2Description: Datasheet; ComponentLink2URL: http://www.analog.com/static/imported-files/data_sheets/AD7983.pdf; ComponentLink3Description: Package Specification; ComponentLink3URL: http://www.analog.com/static/imported-files/packages/CP_10_9.pdf; ComponentLink4Description: Product URL; ComponentLink4URL: http://www.analog.com/en/analog-to-digital-converters/ad-converters/ad7983/products/product.html
footprint CP-10-9_N (SON, 10-Leads, Body 3x3mm, Pitch 0.5mm, Thermal Pad 2.35x1.6mm, IPC Medium Density)
footprint CP-10-9_L (SON, 10-Leads, Body 3x3mm, Pitch 0.5mm, Thermal Pad 2.35x1.6mm, IPC High Density)
footprint CP-10-9_M (SON, 10-Leads, Body 3x3mm, Pitch 0.5mm, Thermal Pad 2.35x1.6mm, IPC Low Density)
pins: 1 REF (in) "Reference Input Voltage. The REF range is from 2.9 V to 5.1 V. It is referred to the GND pin. This pin should be decoupled closely to the pin with a 10 uF capacitor.", 2 VDD (power) "Power Supply.", 3 IN+ (in) "Analog Input. It is referred to IN-. The voltage range, for example, the difference between IN+ and IN-, is 0 V to VREF.", 4 IN- (in) "Analog Input Ground Sense. To be connected to the analog ground plane or to a remote sense ground.", 5 GND (power) "Power Supply Ground.", 6 CNV (in) "Convert Input. This input has multiple functions. On its risng edge, it initiates the conversions and selects the interface mode of the part: chain or C\S\ mode. In C\S\ mode, it enables the SDO pin when low. In chain mode, (See Datasheet)", 7 SDO (hiz) "Serial Data Output. The conversion result is output on this pin. It is synchronized to SCK.", 8 SCK (in) "Serial Data Clock Input. When the part is selected, the conversion result is shifted out by this clock.", 9 SDI (in) "Serial Data Input. This input provides multiple features. It selects the interface mode of the ADC as follows:Chain mode is selected if SDI is low during the CNV rising edge. In this mode, SDI is used as a data input to (See Datasheet)", 10 VIO (power) "Input/Output Interface Digital Power. Nominally at the same supply as the host interface (1.8 V, 2.5 V, 3 V, or 5 V).", 11 EP "Exposed Paddle."

## AD7983BRMZ
designator U?
Single 16-Bit PulSAR Analog-to-Digital Converter with Serial, SPI Interface, 1.33MSPS, -40 to +85 degC, RM-10, Pb-Free, Tube; Generic Part Number: AD7983; Manufacturer: Analog Devices; PartNumber: AD7983BRMZ; Resolution (Bits): 16; Channels: 1; Throughput Rate (SPS): 1.33M; Interface: Ser, SPI; DatasheetVersion: Rev.A; PackageVersion: May-2005; PackageReference: RM-10; PackageDescription: 10-Lead Mini Small Outline Package [MSOP]; Supplier 1: Digi-Key; Supplier Part Number 1: AD7983BRMZ-ND; Supplier 2: Farnell; Supplier Part Number 2: 2192259; Supplier 3: Newark; Supplier Part Number 3: 64M7561; Supplier 4: Mouser; Supplier Part Number 4: 584-AD7983BRMZ; RoHS: Y; Packing: Tube; Mounting Technology: Surface Mount; ComponentLink1Description: Manufacturer URL; ComponentLink1URL: http://www.analog.com/en/index.html; ComponentLink2Description: Datasheet; ComponentLink2URL: http://www.analog.com/static/imported-files/data_sheets/AD7983.pdf; ComponentLink3Description: Package Specification; ComponentLink3URL: http://www.analog.com/static/imported-files/packages/PKG_PDF/MSOP%28RM%29/RM_10.pdf; ComponentLink4Description: Product URL; ComponentLink4URL: http://www.analog.com/en/analog-to-digital-converters/ad-converters/ad7983/products/product.html
footprint RM-10_N (TSSOP, 10-Leads, Body 3x3mm, Pitch 0.5mm, IPC Medium Density)
footprint RM-10_L (TSSOP, 10-Leads, Body 3x3mm, Pitch 0.5mm, IPC High Density)
footprint RM-10_M (TSSOP, 10-Leads, Body 3x3mm, Pitch 0.5mm, IPC Low Density)
pins: 1 REF (in) "Reference Input Voltage. The REF range is from 2.9 V to 5.1 V. It is referred to the GND pin. This pin should be decoupled closely to the pin with a 10 uF capacitor.", 2 VDD (power) "Power Supply.", 3 IN+ (in) "Analog Input. It is referred to IN-. The voltage range, for example, the difference between IN+ and IN-, is 0 V to VREF.", 4 IN- (in) "Analog Input Ground Sense. To be connected to the analog ground plane or to a remote sense ground.", 5 GND (power) "Power Supply Ground.", 6 CNV (in) "Convert Input. This input has multiple functions. On its risng edge, it initiates the conversions and selects the interface mode of the part: chain or C\S\ mode. In C\S\ mode, it enables the SDO pin when low. In chain mode, (See Datasheet)", 7 SDO (hiz) "Serial Data Output. The conversion result is output on this pin. It is synchronized to SCK.", 8 SCK (in) "Serial Data Clock Input. When the part is selected, the conversion result is shifted out by this clock.", 9 SDI (in) "Serial Data Input. This input provides multiple features. It selects the interface mode of the ADC as follows: Chain mode is selected if SDI is low during the CNV rising edge. In this mode, SDI is used as a data input to (See Datasheet)", 10 VIO (power) "Input/Output Interface Digital Power. Nominally at the same supply as the host interface (1.8 V, 2.5 V, 3 V, or 5 V)."

## AD7983BRMZ-RL7
designator U?
Single 16-Bit PulSAR Analog-to-Digital Converter with Serial, SPI Interface, 1.33MSPS, -40 to +85 degC, RM-10, Pb-Free, Reel; Generic Part Number: AD7983; Manufacturer: Analog Devices; PartNumber: AD7983BRMZ-RL7; Resolution (Bits): 16; Channels: 1; Throughput Rate (SPS): 1.33M; Interface: Ser, SPI; DatasheetVersion: Rev.A; PackageVersion: May-2005; PackageReference: RM-10; PackageDescription: 10-Lead Mini Small Outline Package [MSOP]; Supplier 1: Digi-Key; Supplier Part Number 1: AD7983BRMZ-RL7-ND; Supplier 2: Newark; Supplier Part Number 2: 64M7562; Supplier 3: Mouser; Supplier Part Number 3: 584-AD7983BRMZ-R7; RoHS: Y; Packing: Reel; Mounting Technology: Surface Mount; ComponentLink1Description: Manufacturer URL; ComponentLink1URL: http://www.analog.com/en/index.html; ComponentLink2Description: Datasheet; ComponentLink2URL: http://www.analog.com/static/imported-files/data_sheets/AD7983.pdf; ComponentLink3Description: Package Specification; ComponentLink3URL: http://www.analog.com/static/imported-files/packages/PKG_PDF/MSOP%28RM%29/RM_10.pdf; ComponentLink4Description: Product URL; ComponentLink4URL: http://www.analog.com/en/analog-to-digital-converters/ad-converters/ad7983/products/product.html
footprint RM-10_N (TSSOP, 10-Leads, Body 3x3mm, Pitch 0.5mm, IPC Medium Density)
footprint RM-10_L (TSSOP, 10-Leads, Body 3x3mm, Pitch 0.5mm, IPC High Density)
footprint RM-10_M (TSSOP, 10-Leads, Body 3x3mm, Pitch 0.5mm, IPC Low Density)
pins: 1 REF (in) "Reference Input Voltage. The REF range is from 2.9 V to 5.1 V. It is referred to the GND pin. This pin should be decoupled closely to the pin with a 10 uF capacitor.", 2 VDD (power) "Power Supply.", 3 IN+ (in) "Analog Input. It is referred to IN-. The voltage range, for example, the difference between IN+ and IN-, is 0 V to VREF.", 4 IN- (in) "Analog Input Ground Sense. To be connected to the analog ground plane or to a remote sense ground.", 5 GND (power) "Power Supply Ground.", 6 CNV (in) "Convert Input. This input has multiple functions. On its risng edge, it initiates the conversions and selects the interface mode of the part: chain or C\S\ mode. In C\S\ mode, it enables the SDO pin when low. In chain mode, (See Datasheet)", 7 SDO (hiz) "Serial Data Output. The conversion result is output on this pin. It is synchronized to SCK.", 8 SCK (in) "Serial Data Clock Input. When the part is selected, the conversion result is shifted out by this clock.", 9 SDI (in) "Serial Data Input. This input provides multiple features. It selects the interface mode of the ADC as follows: Chain mode is selected if SDI is low during the CNV rising edge. In this mode, SDI is used as a data input to (See Datasheet)", 10 VIO (power) "Input/Output Interface Digital Power. Nominally at the same supply as the host interface (1.8 V, 2.5 V, 3 V, or 5 V)."

## AD7984BCPZ-RL
designator U?
Single 18-Bit PulSAR Analog-to-Digital Converter with Serial, SPI Interface, 1.33MSPS, -40 to +85 degC, CP-10-9, Pb-Free, Reel; Generic Part Number: AD7984; Manufacturer: Analog Devices; PartNumber: AD7984BCPZ-RL; Resolution (Bits): 18; Channels: 1; Throughput Rate (SPS): 1.33M; Interface: Ser, SPI; DatasheetVersion: Rev.A; PackageVersion: 02-27-2012-B; PackageReference: CP-10-9; PackageDescription: 10-Lead Lead Frame Chip Scale Package [LFCSP_WD] 3 x 3 mm Body, Very Very Thin, Dual Lead; Supplier 1: Digi-Key; Supplier Part Number 1: AD7984BCPZ-RL-ND; Supplier 2: Mouser; Supplier Part Number 2: 584-AD7984BCPZ-R; RoHS: Y; Packing: Reel; Mounting Technology: Surface Mount; ComponentLink1Description: Manufacturer URL; ComponentLink1URL: http://www.analog.com/en/index.html; ComponentLink2Description: Datasheet; ComponentLink2URL: http://www.analog.com/static/imported-files/data_sheets/AD7984.pdf; ComponentLink3Description: Package Specification; ComponentLink3URL: http://www.analog.com/static/imported-files/packages/CP_10_9.pdf; ComponentLink4Description: Product URL; ComponentLink4URL: http://www.analog.com/en/analog-to-digital-converters/ad-converters/ad7984/products/product.html
footprint CP-10-9_N (SON, 10-Leads, Body 3x3mm, Pitch 0.5mm, Thermal Pad 2.35x1.6mm, IPC Medium Density)
footprint CP-10-9_L (SON, 10-Leads, Body 3x3mm, Pitch 0.5mm, Thermal Pad 2.35x1.6mm, IPC High Density)
footprint CP-10-9_M (SON, 10-Leads, Body 3x3mm, Pitch 0.5mm, Thermal Pad 2.35x1.6mm, IPC Low Density)
pins: 1 REF (in) "Reference Input Voltage. The REF range is 2.9 V to 5.1 V. This pin is referred to the GND pin and should be decoupled closely to the GND pin with a 10 uF capacitor.", 2 VDD (power) "Power Supply.", 3 IN+ (in) "Differential Positive Analog Input.", 4 IN- (in) "Differential Negative Analog Input.", 5 GND (power) "Power Supply Ground.", 6 CNV (in) "Convert Input. This input has multiple functions. On its rising edge, it initiates the conversions and selects the interface mode of the part: chain mode or C\S\ mode. In C\S\ mode, the SDO pin is enabled when CNV is low. In (See Datasheet)", 7 SDO (hiz) "Serial Data Output. The conversion result is output on this pin. It is synchronized to SCK.", 8 SCK (in) "Serial Data Clock Input. When the part is selected, the conversion result is shifted out by this clock.", 9 SDI (in) "Serial Data Input. This input provides multiple features. It selects the interface mode of the ADC as follows: Chain mode is selected if SDI is low during the CNV rising edge. In this mode, SDI is used as a data input to (See Datasheet)", 10 VIO (power) "Input/Output Interface Digital Power. Nominally at the same supply as the host interface (1.8 V, 2.5 V, 3 V, or 5 V).", 11 EP (power) "Exposed Paddle"